# Altium schematic symbol library Fuses.SchLib: 11 symbols
Pins are listed as number, name and electrical type; pins without a type are passive.

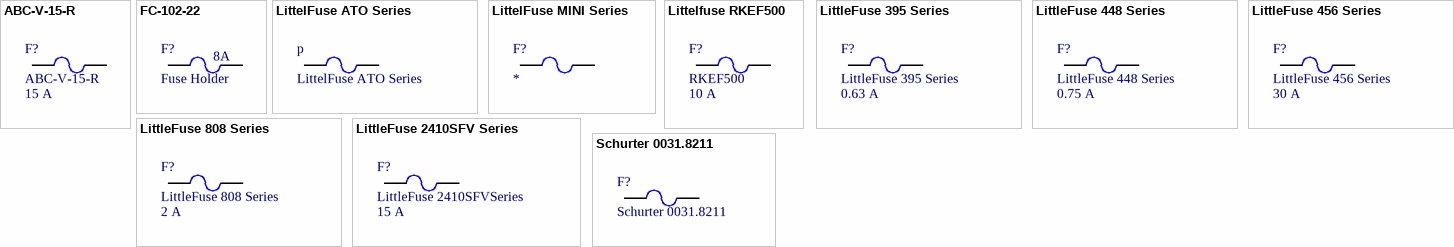
[diagram p0: symbols ABC-V-15-R to Schurter 0031.8211]

## ABC-V-15-R
designator F?  value 15 A
Bussmann / Eaton ABC-15 Fuse
footprint ABC-V-15-R (Bussmann / Eaton ABC-15 Fuse)
pins: 1, 2

## FC-102-22
designator F?, comment Fuse Holder  Current Rating: 8A
ComponentLink1Description: Datasheet; ComponentLink1URL: https://media.digikey.com/pdf/Data%20Sheets/Bel%20Fuse%20PDFs/FC_Series.pdf; Parameter 1: *
footprint FC-102-22 (Fuse Holder)
pins: 1, 2

## LittelFuse ATO Series
designator p
Resettable blade fuses; ComponentLink1Description: Datasheet; ComponentLink1URL: https://www.littelfuse.com/~/media/automotive/datasheets/fuses/passenger-car-and-commercial-vehicle/blade-fuses/littelfuse_atof_datasheet.pdf
footprint ATO
pins: 1, 2

## LittelFuse MINI Series
designator F?
MINI Series blade fuse holder
footprint MINI (LittelFuse MINI series fuse holder)
pins: 1, 2

## Littelfuse RKEF500
designator F?, comment RKEF500  Current Rating: 10 A
Resettable Fuses - PPTC 60V 40A 5.00W Radial-leaded Device; ComponentLink1Description: Part Webpage; ComponentLink1URL: https://www.mouser.com/productdetail/littelfuse/rkef500?qs=sGAEpiMZZMsxR%252bBXi4wRULRM5Emva9yJJN8YRFMWEtY%3D
footprint RKEF500 (Resettable Fuses - PPTC 60V 40A 5.00W Radial-leaded Device)
pins: 1, 2

## LittleFuse 395 Series
designator F?  Current Rating: 0.63 A
LittleFuse 395 Series - Through Hole Fuse
footprint 395 (LittleFuse 395 Series)
pins: 1, 2

## LittleFuse 448 Series
designator F?  Current Rating: 0.75 A
LittleFuse 448 Series - Surface Mount Fuse
footprint 448 (LittleFuse 448 Series)
pins: 1, 2

## LittleFuse 456 Series
designator F?  Current Rating: 30 A
LittleFuse 456 Series - Surface Mount Fuse
footprint 456 [20-30 A] (LittleFuse 456 Series)
footprint 456 [40A] (LittleFuse 456 Series)
pins: 1, 2

## LittleFuse 808 Series
designator F?  Current Rating: 2 A
LittleFuse 808 Series - Through Hole Fuse
footprint 808 (LittleFuse 808 Series)
pins: 1, 2

## LittleFuse 2410SFV Series
designator F?, comment LittleFuse 2410SFVSeries  Current Rating: 15 A
LittleFuse 2410SFV Series - Surface Mount Fuse
footprint 2410SFV (LittleFuse 2410SFV Series)
pins: 1, 2

## Schurter 0031.8211
designator F?
Fuse holder; ComponentLink1Description: Datasheet; ComponentLink1URL: https://www.littelfuse.com/~/media/automotive/datasheets/fuses/passenger-car-and-commercial-vehicle/blade-fuses/littelfuse_atof_datasheet.pdf
footprint Schurter 0031.8211 (Schurter fuse holder)
pins: 1, 2